# EAGLE library part STM32F030C8 (library pimoroni-ics)
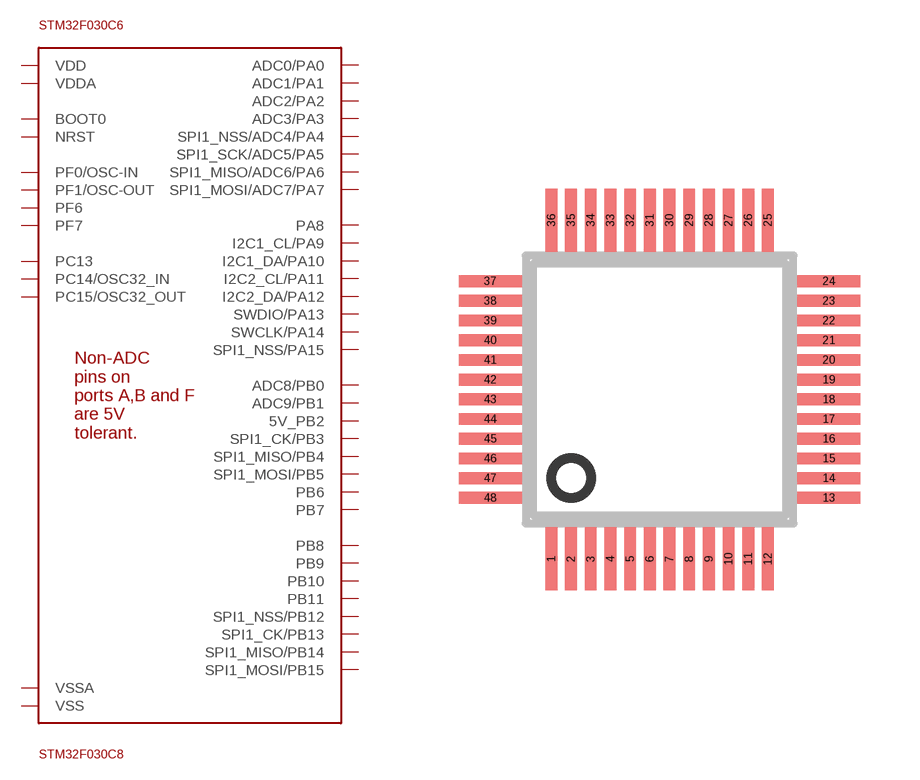
[diagram p1: symbol with the pads of SQFP-S-7X7-48; footprint SQFP-S-7X7-48]

Designator prefix -

## STM32F030C8  [SQFP-S-7X7-48]
1  VDD
2  PC13
3  PC14/OSC32_IN
4  PC15/OSC32_OUT
5  PF0/OSC-IN
6  PF1/OSC-OUT
7  NRST
8  VSSA
9  VDDA
10  ADC0/PA0
11  ADC1/PA1
12  ADC2/PA2
13  ADC3/PA3
14  SPI1_NSS/ADC4/PA4
15  SPI1_SCK/ADC5/PA5
16  SPI1_MISO/ADC6/PA6
17  SPI1_MOSI/ADC7/PA7
18  ADC8/PB0
19  ADC9/PB1
20  5V_PB2
21  PB10
22  PB11
23  VSS
24  VDD
25  SPI1_NSS/PB12
26  SPI1_CK/PB13
27  SPI1_MISO/PB14
28  SPI1_MOSI/PB15
29  PA8
30  I2C1_CL/PA9
31  I2C1_DA/PA10
32  I2C2_CL/PA11
33  I2C2_DA/PA12
34  SWDIO/PA13
35  PF6
36  PF7
37  SWCLK/PA14
38  SPI1_NSS/PA15
39  SPI1_CK/PB3
40  SPI1_MISO/PB4
41  SPI1_MOSI/PB5
42  PB6
43  PB7
44  BOOT0
45  PB8
46  PB9
47  VSS
48  VDD

## Footprint SQFP-S-7X7-48 (pad centres in mm)
QFP48 shrink quad flat pack, square
smd 0.3 x 1.6: 1 -2.75,-4.3; 2 -2.25,-4.3; 3 -1.75,-4.3; 4 -1.25,-4.3; 5 -0.75,-4.3; 6 -0.25,-4.3; 7 0.25,-4.3; 8 0.75,-4.3; 9 1.25,-4.3; 10 1.75,-4.3; 11 2.25,-4.3; 12 2.75,-4.3; 25 2.75,4.3; 26 2.25,4.3; 27 1.75,4.3; 28 1.25,4.3; 29 0.75,4.3; 30 0.25,4.3; 31 -0.25,4.3; 32 -0.75,4.3; 33 -1.25,4.3; 34 -1.75,4.3; 35 -2.25,4.3; 36 -2.75,4.3
smd 1.6 x 0.3: 13 4.3,-2.75; 14 4.3,-2.25; 15 4.3,-1.75; 16 4.3,-1.25; 17 4.3,-0.75; 18 4.3,-0.25; 19 4.3,0.25; 20 4.3,0.75; 21 4.3,1.25; 22 4.3,1.75; 23 4.3,2.25; 24 4.3,2.75; 37 -4.3,2.75; 38 -4.3,2.25; 39 -4.3,1.75; 40 -4.3,1.25; 41 -4.3,0.75; 42 -4.3,0.25; 43 -4.3,-0.25; 44 -4.3,-0.75; 45 -4.3,-1.25; 46 -4.3,-1.75; 47 -4.3,-2.25; 48 -4.3,-2.75